# EAGLE library part JOYSTICK (library SparkFun-Electromechanical)
Thumb Joystick Joystick commonly found in PS2 controllers. Two pots and a select switch. Footprint proven. Spark Fun Electronics SKU : COM-09032
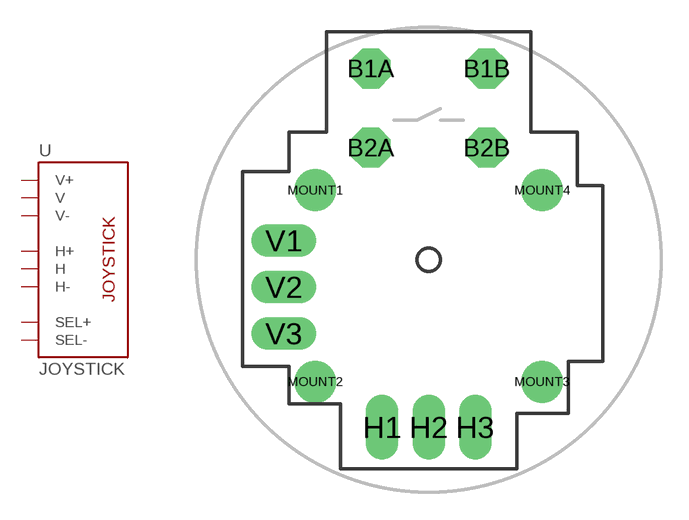
[diagram p5: symbol with the pads of JOYSTICK; footprint JOYSTICK]

Designator prefix U

## JOYSTICKPTH  [JOYSTICK]
B1A  SEL+
B2A  SEL-
H1  H+
H2  H
H3  H-
V1  V+
V2  V
V3  V-

## Footprint JOYSTICK (pad centres in mm)
drill 0.9 pad 2.184 octagon: B1A -3.175,10.45; B1B 3.175,10.45; B2A -3.175,6.12; B2B 3.175,6.12
drill 0.9 pad 1.778 long: H1 -2.54,-9.16; H2 0,-9.16; H3 2.54,-9.16; V1 -7.91,1.04; V2 -7.91,-1.5; V3 -7.91,-4.04
drill 1.397 pad 2.286: MOUNT1 -6.2,3.8; MOUNT2 -6.2,-6.668; MOUNT3 6.2,-6.668; MOUNT4 6.2,3.8